# EAGLE library part 2121340004 (library 2121340004)
Pico-EZmate Plus PCB Header, 1.00mm Pitch, Single Row, Gold (Au) Plating, 4 Circuits Source: Datasheet <https://www.molex.com/pdm_docs/sd/2121340004_sd.pdf>
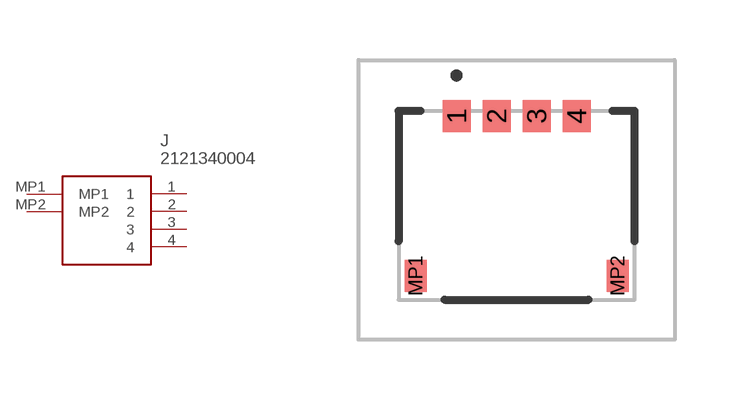
[diagram p0: symbol with the pads of 2121340004; footprint 2121340004]

Designator prefix J

## 2121340004 (Description: Pico-EZmate Plus PCB Header, 1.00mm Pitch, Single Row, Gold (Au) Plating, 4 Circuits; Height: 1.4mm; Manufacturer_Name: Molex; Manufacturer_Part_Number: 2121340004)  [2121340004]
1  1
2  2
3  3
4  4
MP1  MP1
MP2  MP2

## Footprint 2121340004 (pad centres in mm)
2121340004-1
smd 0.7 x 0.8: 1 -1.5,2.24; 2 -0.5,2.24; 3 0.5,2.24; 4 1.5,2.24
smd 0.55 x 0.8: MP1 -2.525,-1.76; MP2 2.525,-1.76